# EAGLE library part HEF4894 (library Traficon)
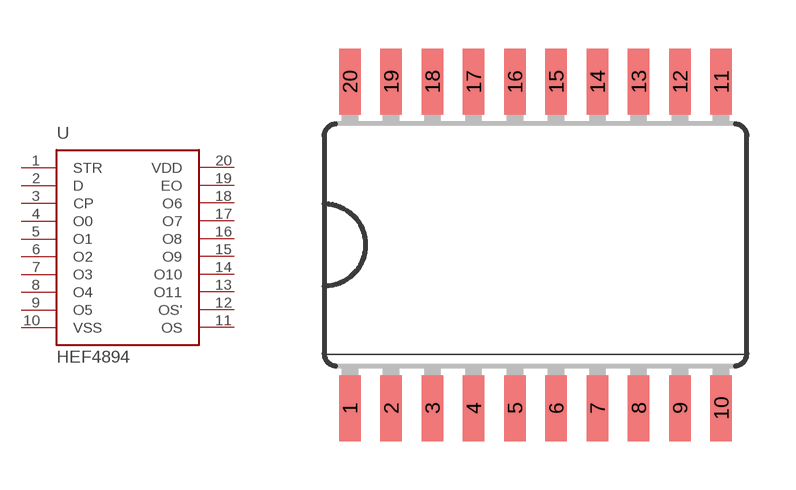
[diagram p158: symbol with the pads of SO20W; footprint SO20W]

Designator prefix U

## HEF4894  [SO20W]
1  STR  in
2  D  in
3  CP  in
4  O0  out
5  O1  out
6  O2  out
7  O3  out
8  O4  out
9  O5  out
10  VSS  pwr
11  OS  out
12  OS'  out
13  O11  out
14  O10  out
15  O9  out
16  O8  out
17  O7  out
18  O6  out
19  EO  in
20  VDD  pwr

## Footprint SO20W (pad centres in mm)
Wide Small Outline package 300 mil
smd 0.66 x 2.032: 1 -5.715,-5.029; 2 -4.445,-5.029; 3 -3.175,-5.029; 4 -1.905,-5.029; 5 -0.635,-5.029; 6 0.635,-5.029; 7 1.905,-5.029; 8 3.175,-5.029; 9 4.445,-5.029; 10 5.715,-5.029; 11 5.715,5.029; 12 4.445,5.029; 13 3.175,5.029; 14 1.905,5.029; 15 0.635,5.029; 16 -0.635,5.029; 17 -1.905,5.029; 18 -3.175,5.029; 19 -4.445,5.029; 20 -5.715,5.029